# EAGLE library part ARDUPROMICRO (library ForApos)
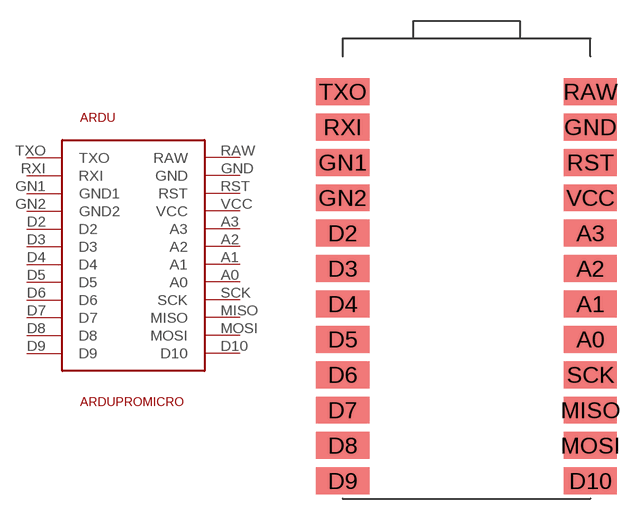
[diagram p0: symbol with the pads of ARDUPROMICROFOOT; footprint ARDUPROMICROFOOT]

Designator prefix ARDU

## ARDUPROMICROSMD  [ARDUPROMICROFOOT]
A0  A0
A1  A1
A2  A2
A3  A3
D2  D2
D3  D3
D4  D4
D5  D5
D6  D6
D7  D7
D8  D8
D9  D9
D10  D10
GN1  GND1  pwr
GN2  GND2  pwr
GND  GND  pwr
MISO  MISO
MOSI  MOSI
RAW  RAW  pwr
RST  RST  in
RXI  RXI
SCK  SCK
TXO  TXO  out
VCC  VCC  pwr

## Footprint ARDUPROMICROFOOT (pad centres in mm)
Arduino Micro Footprint
smd 3.81 x 1.93: A0 8.89,-3.81; A1 8.89,-1.27; A2 8.89,1.27; A3 8.89,3.81; D2 -8.89,3.81; D3 -8.89,1.27; D4 -8.89,-1.27; D5 -8.89,-3.81; D6 -8.89,-6.35; D7 -8.89,-8.89; D8 -8.89,-11.43; D9 -8.89,-13.97; D10 8.89,-13.97; GN1 -8.89,8.89; GN2 -8.89,6.35; GND 8.89,11.43; MISO 8.89,-8.89; MOSI 8.89,-11.43; RAW 8.89,13.97; RST 8.89,8.89; RXI -8.89,11.43; SCK 8.89,-6.35; TXO -8.89,13.97; VCC 8.89,6.35